# EAGLE library part ATMEGA328P-AN (library FA3D_lib)
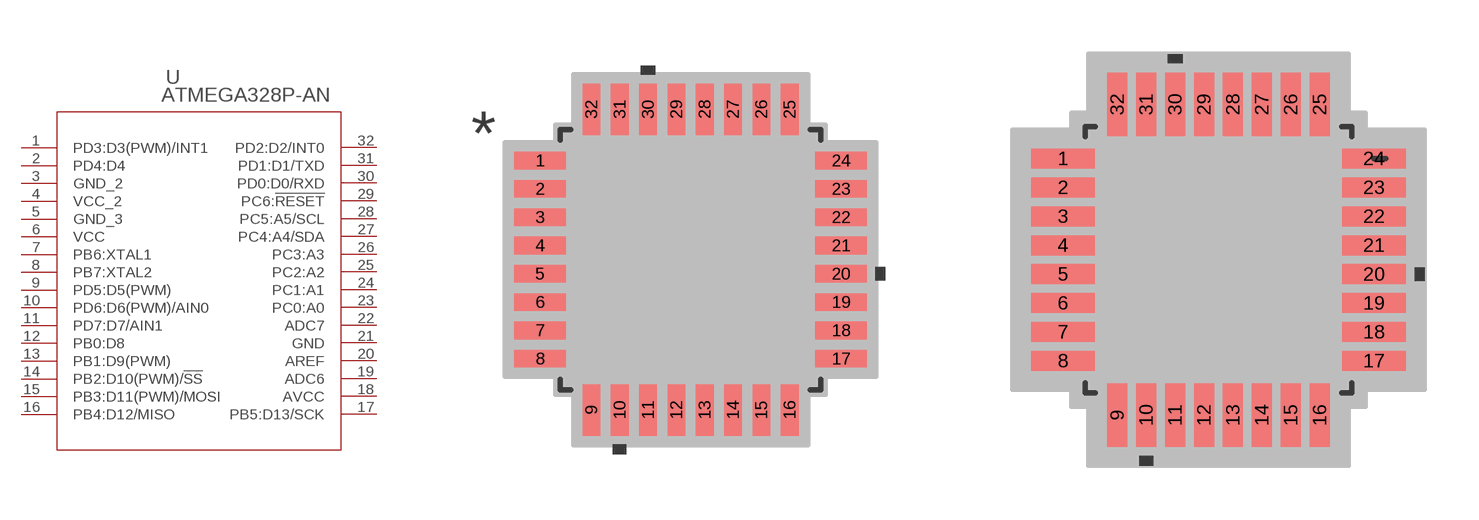
[diagram p3: symbol with the pads of 32A; footprints 32A, 32A-M]

Designator prefix U

## ATMEGA328P-AN (MANUFACTURER_PART_NUMBER: ATMEGA328PAN; VENDOR: Atmel)  [32A]
1  PD3:D3(PWM)/INT1
2  PD4:D4
3  GND_2  pwr
4  VCC_2  pwr
5  GND_3  pwr
6  VCC  pwr
7  PB6:XTAL1
8  PB7:XTAL2
9  PD5:D5(PWM)
10  PD6:D6(PWM)/AIN0
11  PD7:D7/AIN1
12  PB0:D8
13  PB1:D9(PWM)
14  PB2:D10(PWM)/!SS
15  PB3:D11(PWM)/MOSI
16  PB4:D12/MISO
17  PB5:D13/SCK
18  AVCC  pwr
19  ADC6  pas
20  AREF  pas
21  GND  pwr
22  ADC7  pas
23  PC0:A0
24  PC1:A1
25  PC2:A2
26  PC3:A3
27  PC4:A4/SDA
28  PC5:A5/SCL
29  PC6:!RESET
30  PD0:D0/RXD
31  PD1:D1/TXD
32  PD2:D2/INT0

## ATMEGA328P-AN32A-M (MANUFACTURER_PART_NUMBER: ATMEGA328PAN; VENDOR: Atmel)  [32A-M]
Pads as for 32A

## ATMEGA328P-AN32A-L (MANUFACTURER_PART_NUMBER: ATMEGA328PAN; VENDOR: Atmel)  [32A-L]
Pads as for 32A

## Footprint 32A (pad centres in mm)
smd 1.461 x 0.501: 1 -4.25,2.8; 2 -4.25,2; 3 -4.25,1.2; 4 -4.25,0.4; 5 -4.25,-0.4; 6 -4.25,-1.2; 7 -4.25,-2; 8 -4.25,-2.8; 17 4.25,-2.8; 18 4.25,-2; 19 4.25,-1.2; 20 4.25,-0.4; 21 4.25,0.4; 22 4.25,1.2; 23 4.25,2; 24 4.25,2.8
smd 0.501 x 1.461: 9 -2.8,-4.25; 10 -2,-4.25; 11 -1.2,-4.25; 12 -0.4,-4.25; 13 0.4,-4.25; 14 1.2,-4.25; 15 2,-4.25; 16 2.8,-4.25; 25 2.8,4.25; 26 2,4.25; 27 1.2,4.25; 28 0.4,4.25; 29 -0.4,4.25; 30 -1.2,4.25; 31 -2,4.25; 32 -2.8,4.25

## Footprint 32A-M (pad centres in mm)
smd 1.766 x 0.552: 1 -4.301,2.8; 2 -4.301,2; 3 -4.301,1.2; 4 -4.301,0.4; 5 -4.301,-0.4; 6 -4.301,-1.2; 7 -4.301,-2; 8 -4.301,-2.8; 17 4.301,-2.8; 18 4.301,-2; 19 4.301,-1.2; 20 4.301,-0.4; 21 4.301,0.4; 22 4.301,1.2; 23 4.301,2; 24 4.301,2.8
smd 0.552 x 1.766: 9 -2.8,-4.301; 10 -2,-4.301; 11 -1.2,-4.301; 12 -0.4,-4.301; 13 0.4,-4.301; 14 1.2,-4.301; 15 2,-4.301; 16 2.8,-4.301; 25 2.8,4.301; 26 2,4.301; 27 1.2,4.301; 28 0.4,4.301; 29 -0.4,4.301; 30 -1.2,4.301; 31 -2,4.301; 32 -2.8,4.301

## Footprint 32A-L (pad centres in mm)
smd 1.156 x 0.45: 1 -4.199,2.8; 2 -4.199,2; 3 -4.199,1.2; 4 -4.199,0.4; 5 -4.199,-0.4; 6 -4.199,-1.2; 7 -4.199,-2; 8 -4.199,-2.8; 17 4.199,-2.8; 18 4.199,-2; 19 4.199,-1.2; 20 4.199,-0.4; 21 4.199,0.4; 22 4.199,1.2; 23 4.199,2; 24 4.199,2.8
smd 0.45 x 1.156: 9 -2.8,-4.199; 10 -2,-4.199; 11 -1.2,-4.199; 12 -0.4,-4.199; 13 0.4,-4.199; 14 1.2,-4.199; 15 2,-4.199; 16 2.8,-4.199; 25 2.8,4.199; 26 2,4.199; 27 1.2,4.199; 28 0.4,4.199; 29 -0.4,4.199; 30 -1.2,4.199; 31 -2,4.199; 32 -2.8,4.199